# EAGLE library part 621X0621921 (library Board-to-Board (rev18a))
WR-PHD 2.00mm Dual SMT Pin Header, 6 Pins=>Code :WR-PHD_SMD_2,00mm_zweireihig621x0621921(packageing:x = 0: Tube x = 3: Tape & Reel with Cap) <http://katalog.we-online.de/media/images/eican/WR-PHD_SMD_2,00mm_zweireihig62103221921.jpg> 6210xx21921 Details see: http://katalog.we-online.de/en/em/621_0xx_219_21 6213xx21921 Details see: http://katalog.we-online.de/en/em/PHD_2_00_SMT_DUAL_PIN_HEADER_REEL_6213XX21921 2014 (C) Würth Elektronik
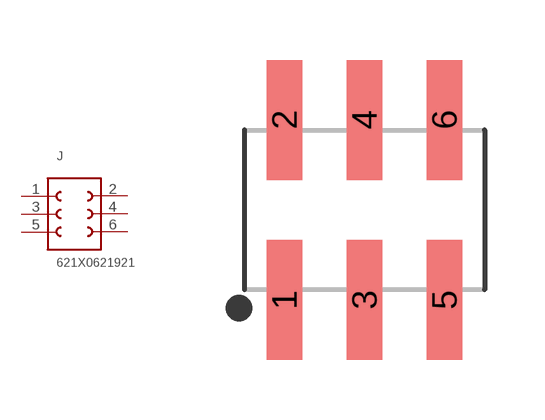
[diagram p231: symbol with the pads of 621X0621921; footprint 621X0621921]

Designator prefix J

## 621X0621921  [621X0621921]
1  1  pas
2  6  pas
3  2  pas
4  5  pas
5  3  pas
6  4  pas

## Footprint 621X0621921 (pad centres in mm)
WR-PHD 2.00mm Dual SMT Pin Header, 6 Pins
smd 0.89 x 3: 1 -2,-2.25; 2 -2,2.25; 3 0,-2.25; 4 0,2.25; 5 2,-2.25; 6 2,2.25